# Altium footprint library CHIP.PcbLib: 6 footprints
Each footprint in its own frame and in the unit in brackets; x right, y up, seen from the top. Pads: shape width x height; smd on the part's side, far side on the other; paste and mask are expansions set on the pad; w line width, h text height; cw(c..) or ccw(c..) is an arc to the next point about the centre after c.
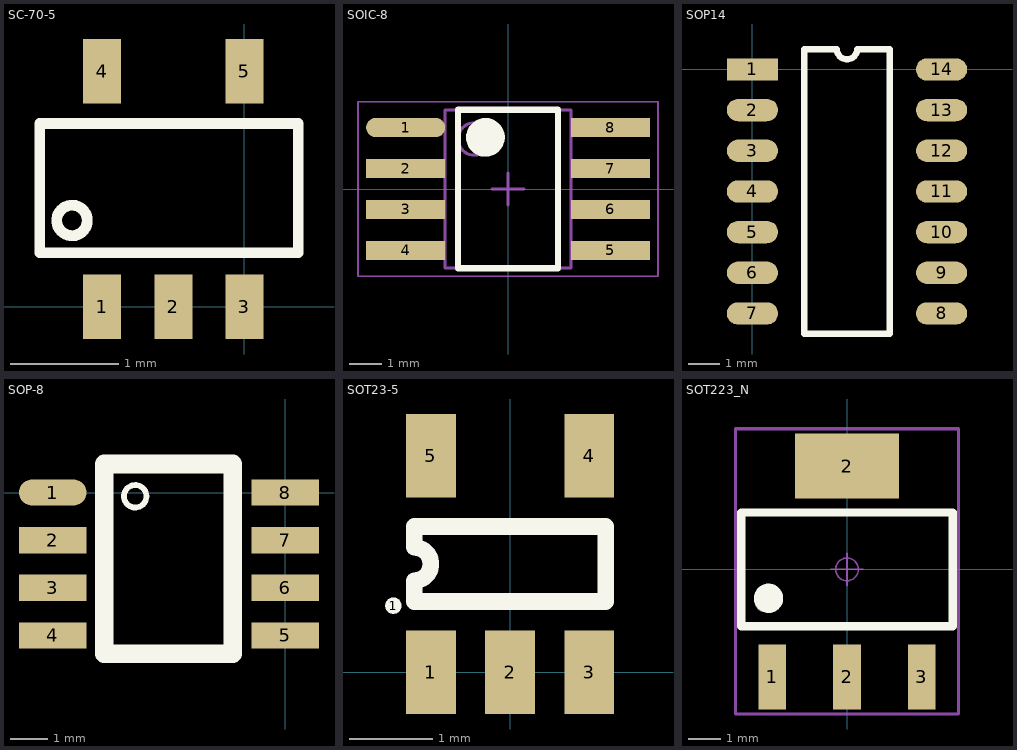
[diagram p0: the footprints below, top view; thin cyan lines are the x and y axes]

## SC-70-5 [mm]
pads (5):
  rect 0.352x0.6 smd: 1(-1.32,0) 2(-0.66,0) 3(0,0) 4(-1.32,2.184) 5(0,2.184)
Top Overlay:
  circle w0.1: c-1.6,0.8 r0.141
  lines w0.1: -1.9,0.5 0.5,0.5 0.5,1.7 -1.9,1.7 -1.9,0.5
3D body: height 0.95, standoff 0, extent -1.7,0.05 0.3,2.15

## SOIC-8 [mm] "SOIC, 8-Leads, Body 4.90x3.90mm, Pitch 1.27mm, IPC Medium Density"
height 1.75
pads (8):
  oval 2.45x0.6 smd: 1(-3.175,1.905)
  rect 2.45x0.6 smd: 2(-3.175,0.635) 3(-3.175,-0.635) 4(-3.175,-1.905) 5(3.175,-1.905) 6(3.175,-0.635) 7(3.175,0.635) 8(3.175,1.905)
Top Overlay:
  circle w0.6: c-0.7,1.6 r0.3
  lines w0.2: -1.55,-2.45 1.55,-2.45 1.55,2.45 -1.55,2.45 -1.55,-2.45
Mechanical 13:
  circle w0.1: c-1.05,1.55 r0.5
  lines w0.1: -1.95,-2.45 1.95,-2.45 1.95,2.45 -1.95,2.45 -1.95,-2.45
Mechanical 15:
  lines w0.05: -4.65,-2.7 4.65,-2.7 4.65,2.7 -4.65,2.7 -4.65,-2.7
  lines w0.1: -0.5,0 0.5,0 ; 0,-0.5 0,0.5
3D body: height 1.75, standoff 0, extent -3.127,-2.45 2.873,2.45

## SOP14 [mm]
pads (14):
  rect 1.623x0.709 smd: 1(0,0)
  oval 1.623x0.709 smd: 2(0,-1.29) 3(0,-2.58) 4(0,-3.87) 5(0,-5.16) 6(0,-6.45) 7(0,-7.74) 8(6,-7.74) 9(6,-6.45) 10(6,-5.16) 11(6,-3.87) 12(6,-2.58) 13(6,-1.29) 14(6,0)
Top Overlay:
  lines w0.2: 1.646,-8.385 4.354,-8.385 4.354,0.645 3.322,0.645 cw(c3,0.645) 2.678,0.645 1.646,0.645 1.646,-8.385
3D body: height 1.61, standoff 0, extent -0.1,-8.25 6.1,0.45

## SOP-8 [mm]
pads (8):
  oval 1.8x0.7 smd: 1(-6.198,0)
  rect 1.8x0.7 smd: 2(-6.198,-1.27) 3(-6.198,-2.54) 4(-6.198,-3.81) 5(0,-3.81) 6(0,-2.54) 7(0,-1.27) 8(0,0)
Top Overlay:
  circle w0.152: c-4,-0.1 r0.3
  lines w0.5: -4.826,-4.3 -4.826,0.762 -1.4,0.762 -1.4,-4.3 -4.826,-4.3
3D body: height 1.55, standoff -0.01, extent -6.09,-4.4 -0.11,0.5

## SOT23-5 [mm] "SOT143-4 as used in SP0503BAHTG"
pads (6):
  round 0.2 on Top Overlay: 1(-1.4,0.8)
  rect 0.6x1 smd: 1(-0.95,0) 2(0,0) 3(0.95,0) 4(0.95,2.6) 5(-0.95,2.6)
Top Overlay:
  lines w0.2: -1.15,0.85 1.15,0.85 1.15,1.75 -1.15,1.75 -1.15,1.5 cw(c-1.15,1.3) -1.15,1.1 -1.15,0.85
3D body: height 1, standoff 0, extent -1.46,0.13 1.46,2.47

## SOT223_N [mm]
pads (4):
  rect 0.85x2 smd: 1(-2.3,-3.302) 2(0,-3.302) 3(2.3,-3.302)
  rect 3.2x2 smd: 2(0,3.175)
Top Overlay:
  circle w0.5: c-2.413,-0.889 r0.2
  lines w0.25: -3.25,-1.75 -3.25,1.75 3.25,1.75 3.25,-1.75 -3.25,-1.75
Mechanical 13:
  circle w0.1: c-2.536,-1.016 r0.25
  lines w0.1: -3.25,-1.75 3.25,-1.75 3.25,1.75 -3.25,1.75 -3.25,-1.75
Mechanical 15:
  circle w0.05: c0,0 r0.35
  lines w0.05: -0.5,0 0.5,0 ; 0,-0.5 0,0.5
  lines w0.1: -3.429,-4.445 3.429,-4.445 3.429,4.318 -3.429,4.318 -3.429,-4.445
3D body: height 1.65, standoff -0.02, extent -3.25,-3.508 3.25,3.508